# Altium schematic symbol library EMG-Interface_AD623.SCHLIB: 21 symbols
Pins are listed as number, name and electrical type; pins without a type are passive.

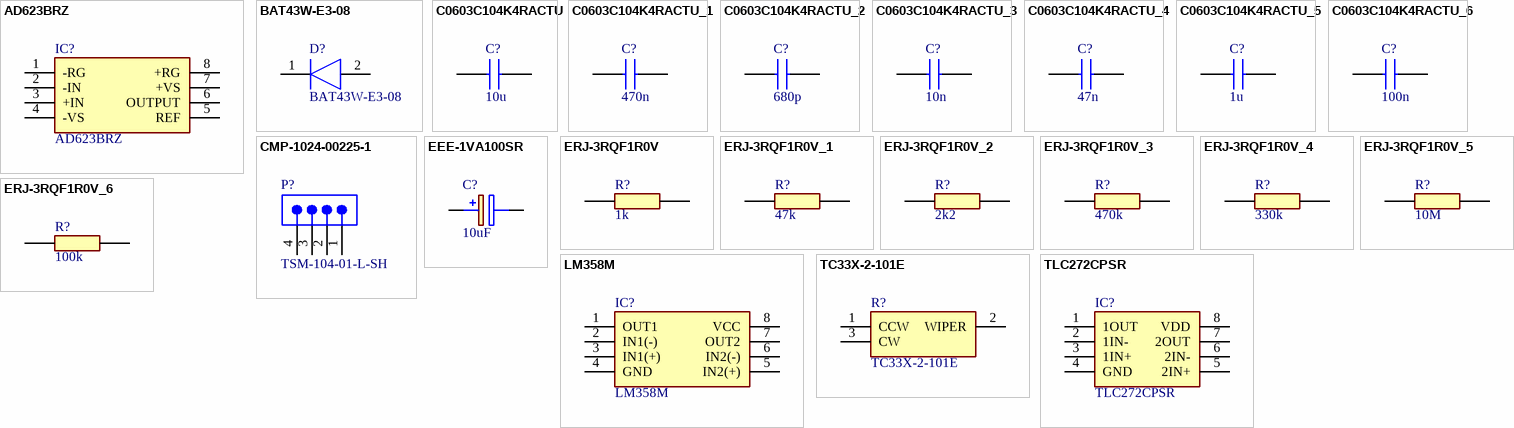
[diagram p0: symbols AD623BRZ to TLC272CPSR]

## AD623BRZ
designator IC?
Integrated Circuit; Manufacturer_Name: Analog Devices; Datasheet Link: https://datasheet.datasheetarchive.com/originals/distributors/Datasheets-4/DSA-69417.pdf; Height: 1.75mm; Manufacturer_Part_Number: AD623BRZ; Mouser Part Number: 584-AD623BRZ; Mouser Price/Stock: https://www.mouser.co.uk/ProductDetail/Analog-Devices/AD623BRZ?qs=NmRFExCfTkG3xAMxGUJbiA%3D%3D; Arrow Part Number: AD623BRZ; Arrow Price/Stock: https://www.arrow.com/en/products/ad623brz/analog-devices?region=nac
footprint SOIC127P600X175-8N
pins: 1 -RG, 2 -IN, 3 +IN, 4 -VS, 5 REF, 6 OUTPUT, 7 +VS, 8 +RG

## BAT43W-E3-08
designator D?
Diode; Manufacturer_Name: Vishay; Datasheet Link: https://www.arrow.com/en/products/bat43w-e3-08/vishay; Height: 1.35mm; Manufacturer_Part_Number: BAT43W-E3-08; Mouser Part Number: 78-BAT43W-E3-08; Mouser Price/Stock: https://www.mouser.co.uk/ProductDetail/Vishay-Semiconductors/BAT43W-E3-08?qs=KP8Io%2FXyE5RCw3lmmA3XwQ%3D%3D; Arrow Part Number: BAT43W-E3-08; Arrow Price/Stock: https://www.arrow.com/en/products/bat43w-e3-08/vishay?region=nac
footprint SOD3716X135N
pins: 1 K, 2 A

## C0603C104K4RACTU
designator C?, comment 10u
Capacitor; Manufacturer_Name: Kemet; Manufacturer_Part_Number: C0603C104K4RACTU; Datasheet Link: https://datasheet.datasheetarchive.com/originals/distributors/Datasheets-DGA10/2404585.pdf; Height: 0.95mm; Mouser Part Number: 80-C0603C104K4R; Mouser Price/Stock: https://www.mouser.co.uk/ProductDetail/KEMET/C0603C104K4RACTU?qs=l5k%252BbMnNDknCtKnMv1oEgA%3D%3D; Arrow Part Number: C0603C104K4RACTU; Arrow Price/Stock: https://www.arrow.com/en/products/c0603c104k4ractu/kemet-corporation?region=nac
footprint CAPC1608X95N
pins: 1, 2

## C0603C104K4RACTU_1
designator C?, comment 470n
Capacitor; Manufacturer_Name: Kemet; Manufacturer_Part_Number: C0603C104K4RACTU; Datasheet Link: https://datasheet.datasheetarchive.com/originals/distributors/Datasheets-DGA10/2404585.pdf; Height: 0.95mm; Mouser Part Number: 80-C0603C104K4R; Mouser Price/Stock: https://www.mouser.co.uk/ProductDetail/KEMET/C0603C104K4RACTU?qs=l5k%252BbMnNDknCtKnMv1oEgA%3D%3D; Arrow Part Number: C0603C104K4RACTU; Arrow Price/Stock: https://www.arrow.com/en/products/c0603c104k4ractu/kemet-corporation?region=nac
footprint CAPC1608X95N
pins: 1, 2

## C0603C104K4RACTU_2
designator C?, comment 680p
Capacitor; Manufacturer_Name: Kemet; Manufacturer_Part_Number: C0603C104K4RACTU; Datasheet Link: https://datasheet.datasheetarchive.com/originals/distributors/Datasheets-DGA10/2404585.pdf; Height: 0.95mm; Mouser Part Number: 80-C0603C104K4R; Mouser Price/Stock: https://www.mouser.co.uk/ProductDetail/KEMET/C0603C104K4RACTU?qs=l5k%252BbMnNDknCtKnMv1oEgA%3D%3D; Arrow Part Number: C0603C104K4RACTU; Arrow Price/Stock: https://www.arrow.com/en/products/c0603c104k4ractu/kemet-corporation?region=nac
footprint CAPC1608X95N
pins: 1, 2

## C0603C104K4RACTU_3
designator C?, comment 10n
Capacitor; Manufacturer_Name: Kemet; Manufacturer_Part_Number: C0603C104K4RACTU; Datasheet Link: https://datasheet.datasheetarchive.com/originals/distributors/Datasheets-DGA10/2404585.pdf; Height: 0.95mm; Mouser Part Number: 80-C0603C104K4R; Mouser Price/Stock: https://www.mouser.co.uk/ProductDetail/KEMET/C0603C104K4RACTU?qs=l5k%252BbMnNDknCtKnMv1oEgA%3D%3D; Arrow Part Number: C0603C104K4RACTU; Arrow Price/Stock: https://www.arrow.com/en/products/c0603c104k4ractu/kemet-corporation?region=nac
footprint CAPC1608X95N
pins: 1, 2

## C0603C104K4RACTU_4
designator C?, comment 47n
Capacitor; Manufacturer_Name: Kemet; Manufacturer_Part_Number: C0603C104K4RACTU; Datasheet Link: https://datasheet.datasheetarchive.com/originals/distributors/Datasheets-DGA10/2404585.pdf; Height: 0.95mm; Mouser Part Number: 80-C0603C104K4R; Mouser Price/Stock: https://www.mouser.co.uk/ProductDetail/KEMET/C0603C104K4RACTU?qs=l5k%252BbMnNDknCtKnMv1oEgA%3D%3D; Arrow Part Number: C0603C104K4RACTU; Arrow Price/Stock: https://www.arrow.com/en/products/c0603c104k4ractu/kemet-corporation?region=nac
footprint CAPC1608X95N
pins: 1, 2

## C0603C104K4RACTU_5
designator C?, comment 1u
Capacitor; Manufacturer_Name: Kemet; Manufacturer_Part_Number: C0603C104K4RACTU; Datasheet Link: https://datasheet.datasheetarchive.com/originals/distributors/Datasheets-DGA10/2404585.pdf; Height: 0.95mm; Mouser Part Number: 80-C0603C104K4R; Mouser Price/Stock: https://www.mouser.co.uk/ProductDetail/KEMET/C0603C104K4RACTU?qs=l5k%252BbMnNDknCtKnMv1oEgA%3D%3D; Arrow Part Number: C0603C104K4RACTU; Arrow Price/Stock: https://www.arrow.com/en/products/c0603c104k4ractu/kemet-corporation?region=nac
footprint CAPC1608X95N
pins: 1, 2

## C0603C104K4RACTU_6
designator C?, comment 100n
Capacitor; Manufacturer_Name: Kemet; Manufacturer_Part_Number: C0603C104K4RACTU; Datasheet Link: https://datasheet.datasheetarchive.com/originals/distributors/Datasheets-DGA10/2404585.pdf; Height: 0.95mm; Mouser Part Number: 80-C0603C104K4R; Mouser Price/Stock: https://www.mouser.co.uk/ProductDetail/KEMET/C0603C104K4RACTU?qs=l5k%252BbMnNDknCtKnMv1oEgA%3D%3D; Arrow Part Number: C0603C104K4RACTU; Arrow Price/Stock: https://www.arrow.com/en/products/c0603c104k4ractu/kemet-corporation?region=nac
footprint CAPC1608X95N
pins: 1, 2

## CMP-1024-00225-1
designator P?, comment TSM-104-01-L-SH
0.025" SQ Post Header, Surface Mount, Horizontal, -55 to 125 degC, 2.54 mm Pitch, 4-Pin, Male, RoHS; Manufacturer: Samtec; Pitch: 2.54 mm; Orientation: Horizontal; DatasheetVersion: F-214; PackageVersion: CD, 7/1991; Temperature Range: -55 to 125 degC; ComponentLink2URL: http://www.samtec.com/documents/webfiles/pdf/TSM.PDF; ComponentLink3URL: http://www.samtec.com/documents/webfiles/cpdf/TSM-1XX-XX-XXX-SH-XX-XXX-XX-MKT1.pdf; PartNumber: TSM-104-01-L-SH; ComponentLink2Description: Datasheet; ComponentLink3Description: Package Specification; PackageReference: TSM-104-01-X-SH; PackageDescription: Terminal Strip Single Surface Mount; ComponentLink1Description: Manufacturer URL; RoHS: True; Mounting Technology: Surface Mount; ComponentLink1URL: http://www.samtec.com; Manufacturer Part Number: TSM-104-01-L-SH
footprint SMTC-TSM-104-01-X-SH (Terminal Strip Single Surface Mount, 1x4 Pins, Horizontal, 2.54mm Pitch, Male)
pins: 1, 2, 3, 4

## EEE-1VA100SR
designator C?, comment 10uF
Capacitor Polarised; Manufacturer_Name: Panasonic; Manufacturer_Part_Number: EEE-1VA100SR; Datasheet Link: http://industrial.panasonic.com/cdbs/www-data/pdf/RDE0000/ABA0000C1145.pdf; Height: 6.5mm; Mouser Part Number: 667-EEE-1VA100SR; Mouser Price/Stock: https://www.mouser.co.uk/ProductDetail/Panasonic/EEE-1VA100SR?qs=wEytwf7f49FxuSCcqSPrug%3D%3D; Arrow Part Number: EEE-1VA100SR; Arrow Price/Stock: https://www.arrow.com/en/products/eee-1va100sr/panasonic
footprint EEE0GA101SR
pins: 1 +, 2 -

## ERJ-3RQF1R0V
designator R?, comment 1k
Resistor; Manufacturer_Name: Panasonic; Manufacturer_Part_Number: ERJ-3RQF1R0V; Datasheet Link: http://industrial.panasonic.com/cdbs/www-data/pdf/RDN0000/AOA0000C313.pdf; Mouser Part Number: 667-ERJ-3RQF1R0V; Mouser Price/Stock: https://www.mouser.co.uk/ProductDetail/Panasonic/ERJ-3RQF1R0V?qs=4WZYzuGhm5qnaleRu2HReg%3D%3D; Arrow Part Number: ERJ-3RQF1R0V; Arrow Price/Stock: https://www.arrow.com/en/products/erj-3rqf1r0v/panasonic?region=nac
footprint ERJ3_B_BQ_BW_LW_(0603)
pins: 1, 2

## ERJ-3RQF1R0V_1
designator R?, comment 47k
Resistor; Manufacturer_Name: Panasonic; Manufacturer_Part_Number: ERJ-3RQF1R0V; Datasheet Link: http://industrial.panasonic.com/cdbs/www-data/pdf/RDN0000/AOA0000C313.pdf; Mouser Part Number: 667-ERJ-3RQF1R0V; Mouser Price/Stock: https://www.mouser.co.uk/ProductDetail/Panasonic/ERJ-3RQF1R0V?qs=4WZYzuGhm5qnaleRu2HReg%3D%3D; Arrow Part Number: ERJ-3RQF1R0V; Arrow Price/Stock: https://www.arrow.com/en/products/erj-3rqf1r0v/panasonic?region=nac
footprint ERJ3_B_BQ_BW_LW_(0603)
pins: 1, 2

## ERJ-3RQF1R0V_2
designator R?, comment 2k2
Resistor; Manufacturer_Name: Panasonic; Manufacturer_Part_Number: ERJ-3RQF1R0V; Datasheet Link: http://industrial.panasonic.com/cdbs/www-data/pdf/RDN0000/AOA0000C313.pdf; Mouser Part Number: 667-ERJ-3RQF1R0V; Mouser Price/Stock: https://www.mouser.co.uk/ProductDetail/Panasonic/ERJ-3RQF1R0V?qs=4WZYzuGhm5qnaleRu2HReg%3D%3D; Arrow Part Number: ERJ-3RQF1R0V; Arrow Price/Stock: https://www.arrow.com/en/products/erj-3rqf1r0v/panasonic?region=nac
footprint ERJ3_B_BQ_BW_LW_(0603)
pins: 1, 2

## ERJ-3RQF1R0V_3
designator R?, comment 470k
Resistor; Manufacturer_Name: Panasonic; Manufacturer_Part_Number: ERJ-3RQF1R0V; Datasheet Link: http://industrial.panasonic.com/cdbs/www-data/pdf/RDN0000/AOA0000C313.pdf; Mouser Part Number: 667-ERJ-3RQF1R0V; Mouser Price/Stock: https://www.mouser.co.uk/ProductDetail/Panasonic/ERJ-3RQF1R0V?qs=4WZYzuGhm5qnaleRu2HReg%3D%3D; Arrow Part Number: ERJ-3RQF1R0V; Arrow Price/Stock: https://www.arrow.com/en/products/erj-3rqf1r0v/panasonic?region=nac
footprint ERJ3_B_BQ_BW_LW_(0603)
pins: 1, 2

## ERJ-3RQF1R0V_4
designator R?, comment 330k
Resistor; Manufacturer_Name: Panasonic; Manufacturer_Part_Number: ERJ-3RQF1R0V; Datasheet Link: http://industrial.panasonic.com/cdbs/www-data/pdf/RDN0000/AOA0000C313.pdf; Mouser Part Number: 667-ERJ-3RQF1R0V; Mouser Price/Stock: https://www.mouser.co.uk/ProductDetail/Panasonic/ERJ-3RQF1R0V?qs=4WZYzuGhm5qnaleRu2HReg%3D%3D; Arrow Part Number: ERJ-3RQF1R0V; Arrow Price/Stock: https://www.arrow.com/en/products/erj-3rqf1r0v/panasonic?region=nac
footprint ERJ3_B_BQ_BW_LW_(0603)
pins: 1, 2

## ERJ-3RQF1R0V_5
designator R?, comment 10M
Resistor; Manufacturer_Name: Panasonic; Manufacturer_Part_Number: ERJ-3RQF1R0V; Datasheet Link: http://industrial.panasonic.com/cdbs/www-data/pdf/RDN0000/AOA0000C313.pdf; Mouser Part Number: 667-ERJ-3RQF1R0V; Mouser Price/Stock: https://www.mouser.co.uk/ProductDetail/Panasonic/ERJ-3RQF1R0V?qs=4WZYzuGhm5qnaleRu2HReg%3D%3D; Arrow Part Number: ERJ-3RQF1R0V; Arrow Price/Stock: https://www.arrow.com/en/products/erj-3rqf1r0v/panasonic?region=nac
footprint ERJ3_B_BQ_BW_LW_(0603)
pins: 1, 2

## ERJ-3RQF1R0V_6
designator R?, comment 100k
Resistor; Manufacturer_Name: Panasonic; Manufacturer_Part_Number: ERJ-3RQF1R0V; Datasheet Link: http://industrial.panasonic.com/cdbs/www-data/pdf/RDN0000/AOA0000C313.pdf; Mouser Part Number: 667-ERJ-3RQF1R0V; Mouser Price/Stock: https://www.mouser.co.uk/ProductDetail/Panasonic/ERJ-3RQF1R0V?qs=4WZYzuGhm5qnaleRu2HReg%3D%3D; Arrow Part Number: ERJ-3RQF1R0V; Arrow Price/Stock: https://www.arrow.com/en/products/erj-3rqf1r0v/panasonic?region=nac
footprint ERJ3_B_BQ_BW_LW_(0603)
pins: 1, 2

## LM358M
designator IC?
Integrated Circuit; Manufacturer_Name: ON Semiconductor; Datasheet Link: https://www.onsemi.com/pub/Collateral/LM358A-D.pdf; Height: 1.75mm; Manufacturer_Part_Number: LM358M; Mouser Part Number: 512-LM358M; Mouser Price/Stock: https://www.mouser.com/Search/Refine.aspx?Keyword=512-LM358M; Arrow Part Number: LM358M; Arrow Price/Stock: https://www.arrow.com/en/products/lm358m/on-semiconductor
footprint SOIC127P600X175-8N
pins: 1 OUT1, 2 IN1(-), 3 IN1(+), 4 GND, 5 IN2(+), 6 IN2(-), 7 OUT2, 8 VCC

## TC33X-2-101E
designator R?
Resistor; Manufacturer_Name: Bourns; Datasheet Link: https://www.bourns.com/pdfs/TC33.pdf; Height: 1.2mm; Manufacturer_Part_Number: TC33X-2-101E; Mouser Part Number: 652-TC33X-2-101E; Mouser Price/Stock: https://www.mouser.co.uk/ProductDetail/Bourns/TC33X-2-101E/?qs=Y%252BBfgPVcerSfRO2kwQB%2F8g%3D%3D; Arrow Part Number: TC33X-2-101E; Arrow Price/Stock: https://www.arrow.com/en/products/tc33x-2-101e/bourns?region=nac
footprint TC33X2503E
pins: 1 CCW, 2 WIPER, 3 CW

## TLC272CPSR
designator IC?
Integrated Circuit; Manufacturer_Name: Texas Instruments; Datasheet Link: http://www.ti.com/lit/gpn/tlc272; Height: 2mm; Manufacturer_Part_Number: TLC272CPSR; Mouser Part Number: 595-TLC272CPSR; Mouser Price/Stock: https://www.mouser.co.uk/ProductDetail/Texas-Instruments/TLC272CPSR?qs=Zu35EjizYSSaXSYvJVYRaA%3D%3D; Arrow Part Number: TLC272CPSR; Arrow Price/Stock: https://www.arrow.com/en/products/tlc272cpsr/texas-instruments?region=nac
footprint SOIC127P780X200-8N
pins: 1 1OUT, 2 1IN-, 3 1IN+, 4 GND, 5 2IN+, 6 2IN-, 7 2OUT, 8 VDD